# Altium footprint library theMonarchTransmitter_PCBLib.PcbLib: 2 footprints
Each footprint in its own frame and in the unit in brackets; x right, y up, seen from the top. Pads: shape width x height; smd on the part's side, far side on the other; paste and mask are expansions set on the pad; w line width, h text height; cw(c..) or ccw(c..) is an arc to the next point about the centre after c.
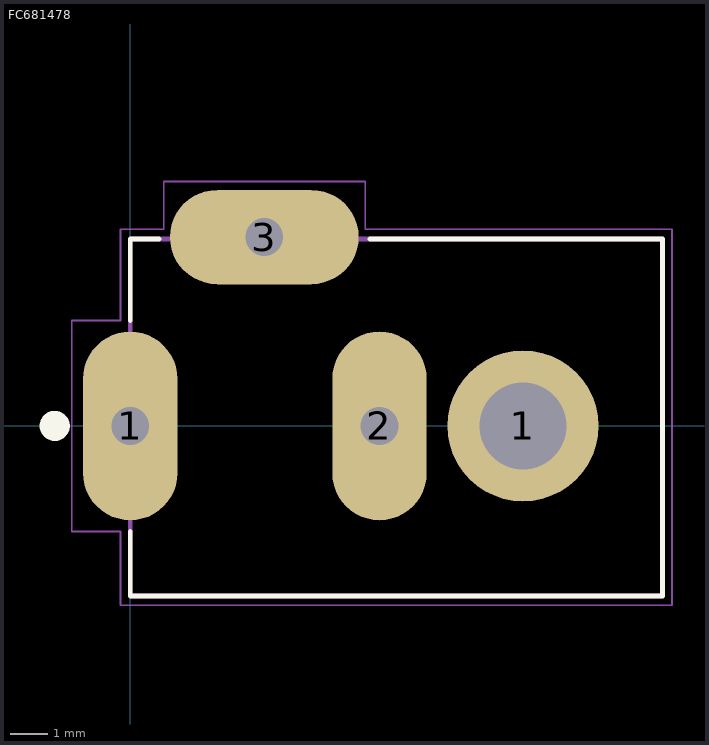
[diagram p0: the footprints below, top view; thin cyan lines are the x and y axes]

## FC681478 [mm]
pads (4):
  oval 2.5x5 hole 1 square: 1(0,0) 2(6.6,0)
  round 4 hole 2.3: 1(10.4,0)
  oval 5x2.5 hole 1 square: 3(3.55,5)
Top Overlay:
  circle w0.4: c-2,0 r0.2
  lines w0.127: 0,-2.794 0,-4.5 14.097,-4.5 14.097,4.953 6.35,4.953 ; 0,2.794 0,4.953 0.762,4.953
Mechanical 13:
  lines w0.127: 0,-4.5 0,4.953 14.097,4.953 14.097,-4.5 0,-4.5
Mechanical 15:
  lines w0.05: -1.55,-2.794 -0.254,-2.794 -0.254,-4.75 14.351,-4.75 14.351,5.207 6.223,5.207 6.223,6.477 0.889,6.477 0.889,5.207 -0.254,5.207 -0.254,2.794 -1.55,2.794 -1.55,-2.794

## PCBComponent_1 [mm]